# Altium footprint library PwrSupply-Footprints-Library.PcbLib: 18 footprints (part 2 of 2)
Each footprint in its own frame and in the unit in brackets; x right, y up, seen from the top. Pads: shape width x height; smd on the part's side, far side on the other; paste and mask are expansions set on the pad; w line width, h text height; cw(c..) or ccw(c..) is an arc to the next point about the centre after c.
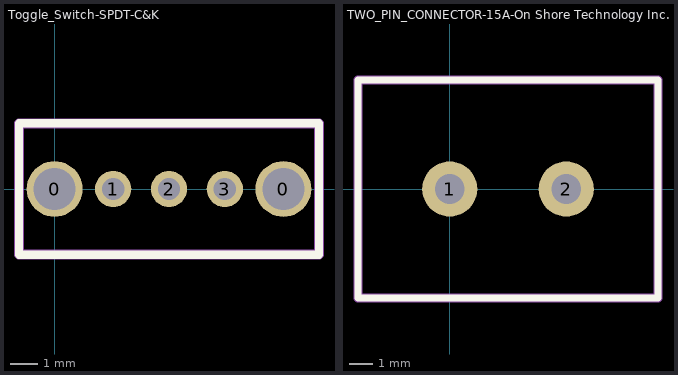
[diagram p1: the footprints below, top view; thin cyan lines are the x and y axes]

## Toggle_Switch-SPDT-C&K [mm] "8.6x4.3mm, 2mmPitch"
pads (5):
  round 2 hole 1.5: 0(0,0) 0(8.2,0)
  round 1.3 hole 0.8: 1(2.1,0) 2(4.1,0) 3(6.1,0)
Top Overlay:
  lines w0.3: -1.275,-2.35 -1.275,2.35 9.475,2.35 9.475,-2.35 -1.275,-2.35
Mechanical 15:
  lines w0.35: -1.275,-2.35 9.475,-2.35 9.475,2.35 -1.275,2.35 -1.275,-2.35
  text "'Designator'" at 2.275,1.225 h0.7

## TWO_PIN_CONNECTOR-15A-On Shore Technology Inc. [mm] "5.08mmPitch On Shore Technology Inc."
pads (2):
  round 2.4 hole 1.3: 1(0,0) 2(5.08,0)
Top Overlay:
  lines w0.3: 9.005,4.75 -4,4.75 -4,-4.75 9.08,-4.75 9.08,4.75
Mechanical 15:
  lines w0.4: -4,-4.75 9.075,-4.75 9.075,4.75 -4,4.75 -4,-4.75
  text "'Designator'" at -1.85,2.4 h2